# Altium integrated library 1-2199119-5.IntLib: 1 symbol
Pins are listed as number, name and electrical type; pins without a type are passive.

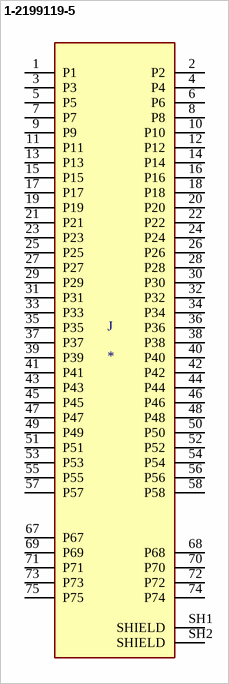
[diagram p0: symbol 1-2199119-5]

## 1-2199119-5
designator J
67 Position Female Connector M.2 _NGFF_ Mini Card Gold 0.020 _0.50mm_ Black; MF: TE Connectivity; MP: 1-2199119-5; Digi-Key_Part_Number: A115902CT-ND; SnapEDA_Link: https://www.snapeda.com/parts/1-2199119-5/TE%20Connectivity%20AMP%20Connectors/view-part/2754473/?ref=snap; Package: None; TE_purchase_URL: https://www.te.com/usa-en/product-1-2199119-5.html?te_bu=Cor&te_type=disp&te_campaign=seda_glo_cor-seda-global-disp-prtnr-fy19-seda-model-bom-cta_sma-317_1&elqCampaignId=32493; Value: *; Digi-Key_Purchase_URL: https://www.digikey.com/product-detail/en/te-connectivity-amp-connectors/1-2199119-5/A115902CT-ND/4208910?utm_source=snapeda&utm_medium=aggregator&utm_campaign=symbol
footprint TE_1-2199119-5
pins: 1 P1, 2 P2, 3 P3, 4 P4, 5 P5, 6 P6, 7 P7, 8 P8, 9 P9, 10 P10, 11 P11, 12 P12, 13 P13, 14 P14, 15 P15, 16 P16, 17 P17, 18 P18, 19 P19, 20 P20, 21 P21, 22 P22, 23 P23, 24 P24, 25 P25, 26 P26, 27 P27, 28 P28, 29 P29, 30 P30, 31 P31, 32 P32, 33 P33, 34 P34, 35 P35, 36 P36, 37 P37, 38 P38, 39 P39, 40 P40, 41 P41, 42 P42, 43 P43, 44 P44, 45 P45, 46 P46, 47 P47, 48 P48, 49 P49, 50 P50, 51 P51, 52 P52, 53 P53, 54 P54, 55 P55, 56 P56, 57 P57, 58 P58, 67 P67, 68 P68, 69 P69, 70 P70, 71 P71, 72 P72, 73 P73, 74 P74, 75 P75, SH1 SHIELD, SH2 SHIELD